# Altium footprint library DIP794W53P254L2540H508Q20N.PcbLib: 1 footprints
Each footprint in its own frame and in the unit in brackets; x right, y up, seen from the top. Pads: shape width x height; smd on the part's side, far side on the other; paste and mask are expansions set on the pad; w line width, h text height; cw(c..) or ccw(c..) is an arc to the next point about the centre after c.
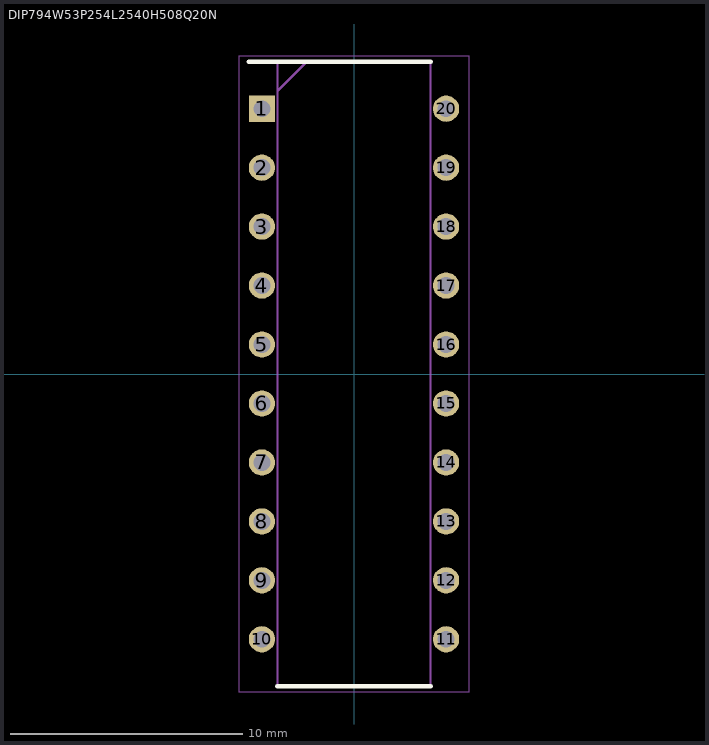
[diagram p0: the footprint, top view; thin cyan lines are the x and y axes]

## DIP794W53P254L2540H508Q20N [mm]
pads (20):
  rect 1.13x1.13 / inner round 1.13 / far side rect 1.13x1.13 hole 0.73: 1(-3.97,11.43)
  round 1.13 hole 0.73: 2(-3.97,8.89) 3(-3.97,6.35) 4(-3.97,3.81) 5(-3.97,1.27) 6(-3.97,-1.27) 7(-3.97,-3.81) 8(-3.97,-6.35) 9(-3.97,-8.89) 10(-3.97,-11.43) 11(3.97,-11.43) 12(3.97,-8.89) 13(3.97,-6.35) 14(3.97,-3.81) 15(3.97,-1.27) 16(3.97,1.27) 17(3.97,3.81) 18(3.97,6.35) 19(3.97,8.89) 20(3.97,11.43)
Top Overlay:
  lines w0.2: -4.535,13.46 3.3,13.46 ; -3.3,-13.46 3.3,-13.46
Mechanical 15:
  lines w0.1: -3.3,12.19 -2.03,13.46 ; -3.3,-13.46 3.3,-13.46 3.3,13.46 -3.3,13.46 -3.3,-13.46
Mechanical 20:
  lines w0.05: -4.945,-13.71 4.945,-13.71 4.945,13.71 -4.945,13.71 -4.945,-13.71